# EAGLE library part 74HC4002PW (library chips_old)
NOR Gate IC 2 Channel 14-TSSOP
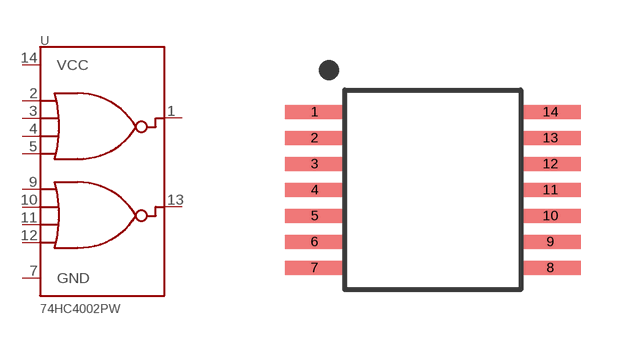
[diagram p60: symbol with the pads of TSSOP-14/5MM; footprint TSSOP-14/5MM]

Designator prefix U

## 74HC4002PW (DIGIKEY: 568-8879-1-ND)  [TSSOP-14/5MM]
1  AOUT
2  A1
3  A2
4  A3
5  A4
7  GND
9  B1
10  B2
11  B3
12  B4
13  BOUT
14  VCC

## Footprint TSSOP-14/5MM (pad centres in mm)
smd 1.5 x 0.35: 1 -2.95,1.95; 2 -2.95,1.3; 3 -2.95,0.65; 4 -2.95,0; 5 -2.95,-0.65; 6 -2.95,-1.3; 7 -2.95,-1.95; 8 2.95,-1.95; 9 2.95,-1.3; 10 2.95,-0.65; 11 2.95,0; 12 2.95,0.65; 13 2.95,1.3; 14 2.95,1.95